# Altium integrated library Altium_WCAP-CSGP (rev21d).IntLib: 945 symbols (part 9 of 17)
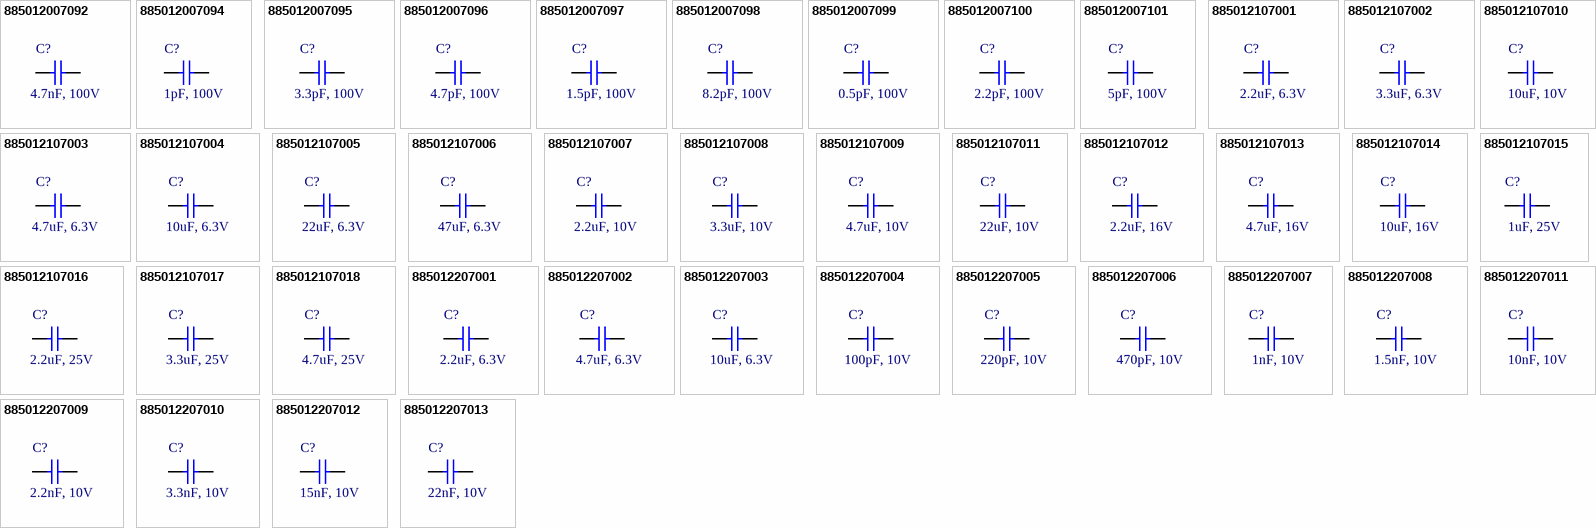
[diagram p35: symbols 885012007092 to 885012207013]

## 885012007097
designator C?, comment 1.5pF, 100V
WCAP-CSGP Multilayer Ceramic Chip Capacitor, General Purpose, size 0805, NP0, 1.5pF, 100V; Manufacturer Part Number: 885012007097; Manufacturer: Wurth Elektronik; Rated Voltage: 100VDC; Isolation Resistance  min.: 10GOhm; Capacitance Tolerance: +/-0.25pF; Technical Reference: NP008051R5C100DFCT10000; Q-Factor min.: 400+20C; ComponentLink1Description: Manufacturer; ComponentLink1URL: http://www.we-online.de; ComponentLink2Description: Datasheet; ComponentLink2URL: https://www.we-online.com/catalog/datasheet/885012007097.pdf; Operating Temperature: -55 to +125degC; Packaging: Tape and Reel; Published Date: April 2021; Ceramic Type: NP0; Dissipation Factor max.: -; Height: 0.6mm; Mounting Technology: SMT; Size: 0805; Capacitance: 1.5pF
footprint WCAP-CSGP_0805_H=0.6mm_Wave
footprint WCAP-CSGP_0805_H=0.6mm_Reflow
pins: 1, 2

## 885012007098
designator C?, comment 8.2pF, 100V
WCAP-CSGP Multilayer Ceramic Chip Capacitor, General Purpose, size 0805, NP0, 8.2pF, 100V; Manufacturer Part Number: 885012007098; Manufacturer: Wurth Elektronik; Rated Voltage: 100VDC; Isolation Resistance  min.: 10GOhm; Capacitance Tolerance: +/-0.5pF; Technical Reference: NP008058R2D100DFCT10000; Q-Factor min.: 400+20C; ComponentLink1Description: Manufacturer; ComponentLink1URL: http://www.we-online.de; ComponentLink2Description: Datasheet; ComponentLink2URL: https://www.we-online.com/catalog/datasheet/885012007098.pdf; Operating Temperature: -55 to +125degC; Packaging: Tape and Reel; Published Date: April 2021; Ceramic Type: NP0; Dissipation Factor max.: -; Height: 0.6mm; Mounting Technology: SMT; Size: 0805; Capacitance: 8.2pF
footprint WCAP-CSGP_0805_H=0.6mm_Wave
footprint WCAP-CSGP_0805_H=0.6mm_Reflow
pins: 1, 2

## 885012007099
designator C?, comment 0.5pF, 100V
WCAP-CSGP Multilayer Ceramic Chip Capacitor, General Purpose, size 0805, NP0, 0.5pF, 100V; Manufacturer Part Number: 885012007099; Manufacturer: Wurth Elektronik; Rated Voltage: 100VDC; Isolation Resistance  min.: 10GOhm; Capacitance Tolerance: +/-0.25pF; Technical Reference: NP00805R50C100DFCT10000; Q-Factor min.: 400+20C; ComponentLink1Description: Manufacturer; ComponentLink1URL: http://www.we-online.de; ComponentLink2Description: Datasheet; ComponentLink2URL: https://www.we-online.com/catalog/datasheet/885012007099.pdf; Operating Temperature: -55 to +125degC; Packaging: Tape and Reel; Published Date: April 2021; Ceramic Type: NP0; Dissipation Factor max.: -; Height: 0.6mm; Mounting Technology: SMT; Size: 0805; Capacitance: 0.5pF
footprint WCAP-CSGP_0805_H=0.6mm_Wave
footprint WCAP-CSGP_0805_H=0.6mm_Reflow
pins: 1, 2

## 885012007100
designator C?, comment 2.2pF, 100V
WCAP-CSGP Multilayer Ceramic Chip Capacitor, General Purpose, size 0805, NP0, 2.2pF, 100V; Manufacturer Part Number: 885012007100; Manufacturer: Wurth Elektronik; Rated Voltage: 100VDC; Isolation Resistance  min.: 10GOhm; Capacitance Tolerance: +/-0.25pF; Technical Reference: NP008052R2C100DFCT10000; Q-Factor min.: 400+20C; ComponentLink1Description: Manufacturer; ComponentLink1URL: http://www.we-online.de; ComponentLink2Description: Datasheet; ComponentLink2URL: https://www.we-online.com/catalog/datasheet/885012007100.pdf; Operating Temperature: -55 to +125degC; Packaging: Tape and Reel; Published Date: April 2021; Ceramic Type: NP0; Dissipation Factor max.: -; Height: 0.6mm; Mounting Technology: SMT; Size: 0805; Capacitance: 2.2pF
footprint WCAP-CSGP_0805_H=0.6mm_Wave
footprint WCAP-CSGP_0805_H=0.6mm_Reflow
pins: 1, 2

## 885012007101
designator C?, comment 5pF, 100V
WCAP-CSGP Multilayer Ceramic Chip Capacitor, General Purpose, size 0805, NP0, 5pF, 100V; Manufacturer Part Number: 885012007101; Manufacturer: Wurth Elektronik; Rated Voltage: 100VDC; Isolation Resistance  min.: 10GOhm; Capacitance Tolerance: +/-0.25pF; Technical Reference: NP008055R0C100DFCT10000; Q-Factor min.: 400+20C; ComponentLink1Description: Manufacturer; ComponentLink1URL: http://www.we-online.de; ComponentLink2Description: Datasheet; ComponentLink2URL: https://www.we-online.com/catalog/datasheet/885012007101.pdf; Operating Temperature: -55 to +125degC; Packaging: Tape and Reel; Published Date: April 2021; Ceramic Type: NP0; Dissipation Factor max.: -; Height: 0.6mm; Mounting Technology: SMT; Size: 0805; Capacitance: 5pF
footprint WCAP-CSGP_0805_H=0.6mm_Wave
footprint WCAP-CSGP_0805_H=0.6mm_Reflow
pins: 1, 2

## 885012107001
designator C?, comment 2.2uF, 6.3V
WCAP-CSGP Multilayer Ceramic Chip Capacitor, General Purpose, size 0805, X5R, 2.2uF, 6.3V; Manufacturer Part Number: 885012107001; Manufacturer: Wurth Elektronik; Rated Voltage: 6.3VDC; Isolation Resistance  min.: 0.05GOhm; Capacitance Tolerance: +/-20%; Dissipation Factor max.: 10%; Technical Reference: X5R0805225M6R3DFCT10000; ComponentLink1Description: Manufacturer; ComponentLink1URL: http://www.we-online.de; ComponentLink2Description: Datasheet; ComponentLink2URL: https://www.we-online.com/catalog/datasheet/885012107001.pdf; Operating Temperature: -55 to +85degC; Packaging: Tape and Reel; Published Date: April 2021; Ceramic Type: X5R; Height: 1.25mm; Mounting Technology: SMT; Size: 0805; Capacitance: 2.2uF; Q-Factor min.: -
footprint WCAP-CSGP_0805_H=1.25mm
pins: 1, 2

## 885012107002
designator C?, comment 3.3uF, 6.3V
WCAP-CSGP Multilayer Ceramic Chip Capacitor, General Purpose, size 0805, X5R, 3.3uF, 6.3V; Manufacturer Part Number: 885012107002; Manufacturer: Wurth Elektronik; Rated Voltage: 6.3VDC; Isolation Resistance  min.: 0.03GOhm; Capacitance Tolerance: +/-20%; Dissipation Factor max.: 10%; Technical Reference: X5R0805335M6R3DFCT10000; ComponentLink1Description: Manufacturer; ComponentLink1URL: http://www.we-online.de; ComponentLink2Description: Datasheet; ComponentLink2URL: https://www.we-online.com/catalog/datasheet/885012107002.pdf; Operating Temperature: -55 to +85degC; Packaging: Tape and Reel; Published Date: April 2021; Ceramic Type: X5R; Height: 1.25mm; Mounting Technology: SMT; Size: 0805; Capacitance: 3.3uF; Q-Factor min.: -
footprint WCAP-CSGP_0805_H=1.25mm
pins: 1, 2

## 885012107003
designator C?, comment 4.7uF, 6.3V
WCAP-CSGP Multilayer Ceramic Chip Capacitor, General Purpose, size 0805, X5R, 4.7uF, 6.3V; Manufacturer Part Number: 885012107003; Manufacturer: Wurth Elektronik; Rated Voltage: 6.3VDC; Isolation Resistance  min.: 0.02GOhm; Capacitance Tolerance: +/-20%; Dissipation Factor max.: 15%; Technical Reference: X5R0805475M6R3DFCT10000; ComponentLink1Description: Manufacturer; ComponentLink1URL: http://www.we-online.de; ComponentLink2Description: Datasheet; ComponentLink2URL: https://www.we-online.com/catalog/datasheet/885012107003.pdf; Operating Temperature: -55 to +85degC; Packaging: Tape and Reel; Published Date: April 2021; Ceramic Type: X5R; Height: 1.25mm; Mounting Technology: SMT; Size: 0805; Capacitance: 4.7uF; Q-Factor min.: -
footprint WCAP-CSGP_0805_H=1.25mm
pins: 1, 2

## 885012107004
designator C?, comment 10uF, 6.3V
WCAP-CSGP Multilayer Ceramic Chip Capacitor, General Purpose, size 0805, X5R, 10uF, 6.3V; Manufacturer Part Number: 885012107004; Manufacturer: Wurth Elektronik; Rated Voltage: 6.3VDC; Isolation Resistance  min.: 0.01GOhm; Capacitance Tolerance: +/-20%; Dissipation Factor max.: 15%; Technical Reference: X5R0805106M6R3DFCT10000; ComponentLink1Description: Manufacturer; ComponentLink1URL: http://www.we-online.de; ComponentLink2Description: Datasheet; ComponentLink2URL: https://www.we-online.com/catalog/datasheet/885012107004.pdf; Operating Temperature: -55 to +85degC; Packaging: Tape and Reel; Published Date: April 2021; Ceramic Type: X5R; Height: 1.25mm; Mounting Technology: SMT; Size: 0805; Capacitance: 10uF; Q-Factor min.: -
footprint WCAP-CSGP_0805_H=1.25mm
pins: 1, 2

## 885012107005
designator C?, comment 22uF, 6.3V
WCAP-CSGP Multilayer Ceramic Chip Capacitor, General Purpose, size 0805, X5R, 22uF, 6.3V; Manufacturer Part Number: 885012107005; Manufacturer: Wurth Elektronik; Rated Voltage: 6.3VDC; Isolation Resistance  min.: 0.005GOhm; Capacitance Tolerance: +/-20%; Dissipation Factor max.: 10%; Technical Reference: X5R0805226M6R3DFCT10000; ComponentLink1Description: Manufacturer; ComponentLink1URL: http://www.we-online.de; ComponentLink2Description: Datasheet; ComponentLink2URL: https://www.we-online.com/catalog/datasheet/885012107005.pdf; Operating Temperature: -55 to +85degC; Packaging: Tape and Reel; Published Date: April 2021; Ceramic Type: X5R; Height: 1.25mm; Mounting Technology: SMT; Size: 0805; Capacitance: 22uF; Q-Factor min.: -
footprint WCAP-CSGP_0805_H=1.25mm
pins: 1, 2

## 885012107006
designator C?, comment 47uF, 6.3V
WCAP-CSGP Multilayer Ceramic Chip Capacitor, General Purpose, size 0805, X5R, 47uF, 6.3V; Manufacturer Part Number: 885012107006; Manufacturer: Wurth Elektronik; Rated Voltage: 6.3VDC; Isolation Resistance  min.: 0.002GOhm; Capacitance Tolerance: +/-20%; Dissipation Factor max.: 10%; Technical Reference: X5R0805476M6R3DFCT10000; ComponentLink1Description: Manufacturer; ComponentLink1URL: http://www.we-online.de; ComponentLink2Description: Datasheet; ComponentLink2URL: https://www.we-online.com/catalog/datasheet/885012107006.pdf; Operating Temperature: -55 to +85degC; Packaging: Tape and Reel; Published Date: April 2021; Ceramic Type: X5R; Height: 1.25mm; Mounting Technology: SMT; Size: 0805; Capacitance: 47uF; Q-Factor min.: -
footprint WCAP-CSGP_0805_H=1.25mm
pins: 1, 2

## 885012107007
designator C?, comment 2.2uF, 10V
WCAP-CSGP Multilayer Ceramic Chip Capacitor, General Purpose, size 0805, X5R, 2.2uF, 10V; Manufacturer Part Number: 885012107007; Manufacturer: Wurth Elektronik; Rated Voltage: 10VDC; Isolation Resistance  min.: 0.05GOhm; Capacitance Tolerance: +/-20%; Dissipation Factor max.: 10%; Technical Reference: X5R0805225M010DFCT10000; ComponentLink1Description: Manufacturer; ComponentLink1URL: http://www.we-online.de; ComponentLink2Description: Datasheet; ComponentLink2URL: https://www.we-online.com/catalog/datasheet/885012107007.pdf; Operating Temperature: -55 to +85degC; Packaging: Tape and Reel; Published Date: April 2021; Ceramic Type: X5R; Height: 1.25mm; Mounting Technology: SMT; Size: 0805; Capacitance: 2.2uF; Q-Factor min.: -
footprint WCAP-CSGP_0805_H=1.25mm
pins: 1, 2

## 885012107008
designator C?, comment 3.3uF, 10V
WCAP-CSGP Multilayer Ceramic Chip Capacitor, General Purpose, size 0805, X5R, 3.3uF, 10V; Manufacturer Part Number: 885012107008; Manufacturer: Wurth Elektronik; Rated Voltage: 10VDC; Isolation Resistance  min.: 0.03GOhm; Capacitance Tolerance: +/-20%; Dissipation Factor max.: 10%; Technical Reference: X5R0805335M010DFCT10000; ComponentLink1Description: Manufacturer; ComponentLink1URL: http://www.we-online.de; ComponentLink2Description: Datasheet; ComponentLink2URL: https://www.we-online.com/catalog/datasheet/885012107008.pdf; Operating Temperature: -55 to +85degC; Packaging: Tape and Reel; Published Date: April 2021; Ceramic Type: X5R; Height: 1.25mm; Mounting Technology: SMT; Size: 0805; Capacitance: 3.3uF; Q-Factor min.: -
footprint WCAP-CSGP_0805_H=1.25mm
pins: 1, 2

## 885012107009
designator C?, comment 4.7uF, 10V
WCAP-CSGP Multilayer Ceramic Chip Capacitor, General Purpose, size 0805, X5R, 4.7uF, 10V; Manufacturer Part Number: 885012107009; Manufacturer: Wurth Elektronik; Rated Voltage: 10VDC; Isolation Resistance  min.: 0.02GOhm; Capacitance Tolerance: +/-20%; Dissipation Factor max.: 10%; Technical Reference: X5R0805475M010DFCT10000; ComponentLink1Description: Manufacturer; ComponentLink1URL: http://www.we-online.de; ComponentLink2Description: Datasheet; ComponentLink2URL: https://www.we-online.com/catalog/datasheet/885012107009.pdf; Operating Temperature: -55 to +85degC; Packaging: Tape and Reel; Published Date: April 2021; Ceramic Type: X5R; Height: 1.25mm; Mounting Technology: SMT; Size: 0805; Capacitance: 4.7uF; Q-Factor min.: -
footprint WCAP-CSGP_0805_H=1.25mm
pins: 1, 2

## 885012107010
designator C?, comment 10uF, 10V
WCAP-CSGP Multilayer Ceramic Chip Capacitor, General Purpose, size 0805, X5R, 10uF, 10V; Manufacturer Part Number: 885012107010; Manufacturer: Wurth Elektronik; Rated Voltage: 10VDC; Isolation Resistance  min.: 0.01GOhm; Capacitance Tolerance: +/-20%; Dissipation Factor max.: 10%; Technical Reference: X5R0805106M010DFCT10000; ComponentLink1Description: Manufacturer; ComponentLink1URL: http://www.we-online.de; ComponentLink2Description: Datasheet; ComponentLink2URL: https://www.we-online.com/catalog/datasheet/885012107010.pdf; Operating Temperature: -55 to +85degC; Packaging: Tape and Reel; Published Date: April 2021; Ceramic Type: X5R; Height: 1.25mm; Mounting Technology: SMT; Size: 0805; Capacitance: 10uF; Q-Factor min.: -
footprint WCAP-CSGP_0805_H=1.25mm
pins: 1, 2

## 885012107011
designator C?, comment 22uF, 10V
WCAP-CSGP Multilayer Ceramic Chip Capacitor, General Purpose, size 0805, X5R, 22uF, 10V; Manufacturer Part Number: 885012107011; Manufacturer: Wurth Elektronik; Rated Voltage: 10VDC; Isolation Resistance  min.: 0.005GOhm; Capacitance Tolerance: +/-20%; Dissipation Factor max.: 10%; Technical Reference: X5R0805226M010DFCT10000; ComponentLink1Description: Manufacturer; ComponentLink1URL: http://www.we-online.de; ComponentLink2Description: Datasheet; ComponentLink2URL: https://www.we-online.com/catalog/datasheet/885012107011.pdf; Operating Temperature: -55 to +85degC; Packaging: Tape and Reel; Published Date: April 2021; Ceramic Type: X5R; Height: 1.25mm; Mounting Technology: SMT; Size: 0805; Capacitance: 22uF; Q-Factor min.: -
footprint WCAP-CSGP_0805_H=1.25mm
pins: 1, 2

## 885012107012
designator C?, comment 2.2uF, 16V
WCAP-CSGP Multilayer Ceramic Chip Capacitor, General Purpose, size 0805, X5R, 2.2uF, 16V; Manufacturer Part Number: 885012107012; Manufacturer: Wurth Elektronik; Rated Voltage: 16VDC; Isolation Resistance  min.: 0.05GOhm; Capacitance Tolerance: +/-20%; Dissipation Factor max.: 10%; Technical Reference: X5R0805225M016DFCT10000; ComponentLink1Description: Manufacturer; ComponentLink1URL: http://www.we-online.de; ComponentLink2Description: Datasheet; ComponentLink2URL: https://www.we-online.com/catalog/datasheet/885012107012.pdf; Operating Temperature: -55 to +85degC; Packaging: Tape and Reel; Published Date: April 2021; Ceramic Type: X5R; Height: 1.25mm; Mounting Technology: SMT; Size: 0805; Capacitance: 2.2uF; Q-Factor min.: -
footprint WCAP-CSGP_0805_H=1.25mm
pins: 1, 2

## 885012107013
designator C?, comment 4.7uF, 16V
WCAP-CSGP Multilayer Ceramic Chip Capacitor, General Purpose, size 0805, X5R, 4.7uF, 16V; Manufacturer Part Number: 885012107013; Manufacturer: Wurth Elektronik; Rated Voltage: 16VDC; Isolation Resistance  min.: 0.02GOhm; Capacitance Tolerance: +/-20%; Dissipation Factor max.: 10%; Technical Reference: X5R0805475M016DFCT10000; ComponentLink1Description: Manufacturer; ComponentLink1URL: http://www.we-online.de; ComponentLink2Description: Datasheet; ComponentLink2URL: https://www.we-online.com/catalog/datasheet/885012107013.pdf; Operating Temperature: -55 to +85degC; Packaging: Tape and Reel; Published Date: April 2021; Ceramic Type: X5R; Height: 1.25mm; Mounting Technology: SMT; Size: 0805; Capacitance: 4.7uF; Q-Factor min.: -
footprint WCAP-CSGP_0805_H=1.25mm
pins: 1, 2

## 885012107014
designator C?, comment 10uF, 16V
WCAP-CSGP Multilayer Ceramic Chip Capacitor, General Purpose, size 0805, X5R, 10uF, 16V; Manufacturer Part Number: 885012107014; Manufacturer: Wurth Elektronik; Rated Voltage: 16VDC; Isolation Resistance  min.: 0.01GOhm; Capacitance Tolerance: +/-20%; Dissipation Factor max.: 10%; Technical Reference: X5R0805106M016DFCT10000; ComponentLink1Description: Manufacturer; ComponentLink1URL: http://www.we-online.de; ComponentLink2Description: Datasheet; ComponentLink2URL: https://www.we-online.com/catalog/datasheet/885012107014.pdf; Operating Temperature: -55 to +85degC; Packaging: Tape and Reel; Published Date: April 2021; Ceramic Type: X5R; Height: 1.25mm; Mounting Technology: SMT; Size: 0805; Capacitance: 10uF; Q-Factor min.: -
footprint WCAP-CSGP_0805_H=1.25mm
pins: 1, 2

## 885012107015
designator C?, comment 1uF, 25V
WCAP-CSGP Multilayer Ceramic Chip Capacitor, General Purpose, size 0805, X5R, 1uF, 25V; Manufacturer Part Number: 885012107015; Manufacturer: Wurth Elektronik; Rated Voltage: 25VDC; Isolation Resistance  min.: 0.5GOhm; Capacitance Tolerance: +/-20%; Dissipation Factor max.: 5%; Technical Reference: X5R0805105M025DFCT10000; ComponentLink1Description: Manufacturer; ComponentLink1URL: http://www.we-online.de; ComponentLink2Description: Datasheet; ComponentLink2URL: https://www.we-online.com/catalog/datasheet/885012107015.pdf; Operating Temperature: -55 to +85degC; Packaging: Tape and Reel; Published Date: April 2021; Ceramic Type: X5R; Height: 1.25mm; Mounting Technology: SMT; Size: 0805; Capacitance: 1uF; Q-Factor min.: -
footprint WCAP-CSGP_0805_H=1.25mm
pins: 1, 2

## 885012107016
designator C?, comment 2.2uF, 25V
WCAP-CSGP Multilayer Ceramic Chip Capacitor, General Purpose, size 0805, X5R, 2.2uF, 25V; Manufacturer Part Number: 885012107016; Manufacturer: Wurth Elektronik; Rated Voltage: 25VDC; Isolation Resistance  min.: 0.05GOhm; Capacitance Tolerance: +/-20%; Dissipation Factor max.: 10%; Technical Reference: X5R0805225M025DFCT10000; ComponentLink1Description: Manufacturer; ComponentLink1URL: http://www.we-online.de; ComponentLink2Description: Datasheet; ComponentLink2URL: https://www.we-online.com/catalog/datasheet/885012107016.pdf; Operating Temperature: -55 to +85degC; Packaging: Tape and Reel; Published Date: April 2021; Ceramic Type: X5R; Height: 1.25mm; Mounting Technology: SMT; Size: 0805; Capacitance: 2.2uF; Q-Factor min.: -
footprint WCAP-CSGP_0805_H=1.25mm
pins: 1, 2

## 885012107017
designator C?, comment 3.3uF, 25V
WCAP-CSGP Multilayer Ceramic Chip Capacitor, General Purpose, size 0805, X5R, 3.3uF, 25V; Manufacturer Part Number: 885012107017; Manufacturer: Wurth Elektronik; Rated Voltage: 25VDC; Isolation Resistance  min.: 0.03GOhm; Capacitance Tolerance: +/-20%; Dissipation Factor max.: 10%; Technical Reference: X5R0805335M025DFCT10000; ComponentLink1Description: Manufacturer; ComponentLink1URL: http://www.we-online.de; ComponentLink2Description: Datasheet; ComponentLink2URL: https://www.we-online.com/catalog/datasheet/885012107017.pdf; Operating Temperature: -55 to +85degC; Packaging: Tape and Reel; Published Date: April 2021; Ceramic Type: X5R; Height: 1.25mm; Mounting Technology: SMT; Size: 0805; Capacitance: 3.3uF; Q-Factor min.: -
footprint WCAP-CSGP_0805_H=1.25mm
pins: 1, 2

## 885012107018
designator C?, comment 4.7uF, 25V
WCAP-CSGP Multilayer Ceramic Chip Capacitor, General Purpose, size 0805, X5R, 4.7uF, 25V; Manufacturer Part Number: 885012107018; Manufacturer: Wurth Elektronik; Rated Voltage: 25VDC; Isolation Resistance  min.: 0.02GOhm; Capacitance Tolerance: +/-20%; Dissipation Factor max.: 10%; Technical Reference: X5R0805475M025DFCT10000; ComponentLink1Description: Manufacturer; ComponentLink1URL: http://www.we-online.de; ComponentLink2Description: Datasheet; ComponentLink2URL: https://www.we-online.com/catalog/datasheet/885012107018.pdf; Operating Temperature: -55 to +85degC; Packaging: Tape and Reel; Published Date: April 2021; Ceramic Type: X5R; Height: 1.25mm; Mounting Technology: SMT; Size: 0805; Capacitance: 4.7uF; Q-Factor min.: -
footprint WCAP-CSGP_0805_H=1.25mm
pins: 1, 2

## 885012207001
designator C?, comment 2.2uF, 6.3V
WCAP-CSGP Multilayer Ceramic Chip Capacitor, General Purpose, size 0805, X7R, 2.2uF, 6.3V; Manufacturer Part Number: 885012207001; Manufacturer: Wurth Elektronik; Rated Voltage: 6.3VDC; Isolation Resistance  min.: 0.05GOhm; Capacitance Tolerance: +/-10%; Dissipation Factor max.: 10%; Technical Reference: X7R0805225K6R3DFCT10000; ComponentLink1Description: Manufacturer; ComponentLink1URL: http://www.we-online.de; ComponentLink2Description: Datasheet; ComponentLink2URL: https://www.we-online.com/catalog/datasheet/885012207001.pdf; Operating Temperature: -55 to +125degC; Packaging: Tape and Reel; Published Date: April 2021; Ceramic Type: X7R; Height: 1.25mm; Mounting Technology: SMT; Size: 0805; Capacitance: 2.2uF; Q-Factor min.: -
footprint WCAP-CSGP_0805_H=1.25mm
pins: 1, 2

## 885012207002
designator C?, comment 4.7uF, 6.3V
WCAP-CSGP Multilayer Ceramic Chip Capacitor, General Purpose, size 0805, X7R, 4.7uF, 6.3V; Manufacturer Part Number: 885012207002; Manufacturer: Wurth Elektronik; Rated Voltage: 6.3VDC; Isolation Resistance  min.: 0.02GOhm; Capacitance Tolerance: +/-10%; Dissipation Factor max.: 10%; Technical Reference: X7R0805475K6R3DFCT10000; ComponentLink1Description: Manufacturer; ComponentLink1URL: http://www.we-online.de; ComponentLink2Description: Datasheet; ComponentLink2URL: https://www.we-online.com/catalog/datasheet/885012207002.pdf; Operating Temperature: -55 to +125degC; Packaging: Tape and Reel; Published Date: April 2021; Ceramic Type: X7R; Height: 1.25mm; Mounting Technology: SMT; Size: 0805; Capacitance: 4.7uF; Q-Factor min.: -
footprint WCAP-CSGP_0805_H=1.25mm
pins: 1, 2

## 885012207003
designator C?, comment 10uF, 6.3V
WCAP-CSGP Multilayer Ceramic Chip Capacitor, General Purpose, size 0805, X7R, 10uF, 6.3V; Manufacturer Part Number: 885012207003; Manufacturer: Wurth Elektronik; Rated Voltage: 6.3VDC; Isolation Resistance  min.: 0.01GOhm; Capacitance Tolerance: +/-10%; Dissipation Factor max.: 10%; Technical Reference: X7R0805106K6R3DFCT10000; ComponentLink1Description: Manufacturer; ComponentLink1URL: http://www.we-online.de; ComponentLink2Description: Datasheet; ComponentLink2URL: https://www.we-online.com/catalog/datasheet/885012207003.pdf; Operating Temperature: -55 to +125degC; Packaging: Tape and Reel; Published Date: April 2021; Ceramic Type: X7R; Height: 1.25mm; Mounting Technology: SMT; Size: 0805; Capacitance: 10uF; Q-Factor min.: -
footprint WCAP-CSGP_0805_H=1.25mm
pins: 1, 2

## 885012207004
designator C?, comment 100pF, 10V
WCAP-CSGP Multilayer Ceramic Chip Capacitor, General Purpose, size 0805, X7R, 100pF, 10V; Manufacturer Part Number: 885012207004; Manufacturer: Wurth Elektronik; Rated Voltage: 10VDC; Isolation Resistance  min.: 10GOhm; Capacitance Tolerance: +/-10%; Dissipation Factor max.: 5%; Technical Reference: X7R0805101K010DFCT10000; ComponentLink1Description: Manufacturer; ComponentLink1URL: http://www.we-online.de; ComponentLink2Description: Datasheet; ComponentLink2URL: https://www.we-online.com/catalog/datasheet/885012207004.pdf; Operating Temperature: -55 to +125degC; Packaging: Tape and Reel; Published Date: April 2021; Ceramic Type: X7R; Height: 0.8mm; Mounting Technology: SMT; Size: 0805; Capacitance: 100pF; Q-Factor min.: -
footprint WCAP-CSGP_0805_H=0.8mm_Wave
footprint WCAP-CSGP_0805_H=0.8mm_Reflow
pins: 1, 2

## 885012207005
designator C?, comment 220pF, 10V
WCAP-CSGP Multilayer Ceramic Chip Capacitor, General Purpose, size 0805, X7R, 220pF, 10V; Manufacturer Part Number: 885012207005; Manufacturer: Wurth Elektronik; Rated Voltage: 10VDC; Isolation Resistance  min.: 10GOhm; Capacitance Tolerance: +/-10%; Dissipation Factor max.: 5%; Technical Reference: X7R0805221K010DFCT10000; ComponentLink1Description: Manufacturer; ComponentLink1URL: http://www.we-online.de; ComponentLink2Description: Datasheet; ComponentLink2URL: https://www.we-online.com/catalog/datasheet/885012207005.pdf; Operating Temperature: -55 to +125degC; Packaging: Tape and Reel; Published Date: April 2021; Ceramic Type: X7R; Height: 0.8mm; Mounting Technology: SMT; Size: 0805; Capacitance: 220pF; Q-Factor min.: -
footprint WCAP-CSGP_0805_H=0.8mm_Wave
footprint WCAP-CSGP_0805_H=0.8mm_Reflow
pins: 1, 2

## 885012207006
designator C?, comment 470pF, 10V
WCAP-CSGP Multilayer Ceramic Chip Capacitor, General Purpose, size 0805, X7R, 470pF, 10V; Manufacturer Part Number: 885012207006; Manufacturer: Wurth Elektronik; Rated Voltage: 10VDC; Isolation Resistance  min.: 10GOhm; Capacitance Tolerance: +/-10%; Dissipation Factor max.: 5%; Technical Reference: X7R0805471K010DFCT10000; ComponentLink1Description: Manufacturer; ComponentLink1URL: http://www.we-online.de; ComponentLink2Description: Datasheet; ComponentLink2URL: https://www.we-online.com/catalog/datasheet/885012207006.pdf; Operating Temperature: -55 to +125degC; Packaging: Tape and Reel; Published Date: April 2021; Ceramic Type: X7R; Height: 0.8mm; Mounting Technology: SMT; Size: 0805; Capacitance: 470pF; Q-Factor min.: -
footprint WCAP-CSGP_0805_H=0.8mm_Wave
footprint WCAP-CSGP_0805_H=0.8mm_Reflow
pins: 1, 2

## 885012207007
designator C?, comment 1nF, 10V
WCAP-CSGP Multilayer Ceramic Chip Capacitor, General Purpose, size 0805, X7R, 1nF, 10V; Manufacturer Part Number: 885012207007; Manufacturer: Wurth Elektronik; Rated Voltage: 10VDC; Isolation Resistance  min.: 10GOhm; Capacitance Tolerance: +/-10%; Dissipation Factor max.: 5%; Technical Reference: X7R0805102K010DFCT10000; ComponentLink1Description: Manufacturer; ComponentLink1URL: http://www.we-online.de; ComponentLink2Description: Datasheet; ComponentLink2URL: https://www.we-online.com/catalog/datasheet/885012207007.pdf; Operating Temperature: -55 to +125degC; Packaging: Tape and Reel; Published Date: April 2021; Ceramic Type: X7R; Height: 0.8mm; Mounting Technology: SMT; Size: 0805; Capacitance: 1nF; Q-Factor min.: -
footprint WCAP-CSGP_0805_H=0.8mm_Wave
footprint WCAP-CSGP_0805_H=0.8mm_Reflow
pins: 1, 2

## 885012207008
designator C?, comment 1.5nF, 10V
WCAP-CSGP Multilayer Ceramic Chip Capacitor, General Purpose, size 0805, X7R, 1.5nF, 10V; Manufacturer Part Number: 885012207008; Manufacturer: Wurth Elektronik; Rated Voltage: 10VDC; Isolation Resistance  min.: 10GOhm; Capacitance Tolerance: +/-10%; Dissipation Factor max.: 5%; Technical Reference: X7R0805152K010DFCT10000; ComponentLink1Description: Manufacturer; ComponentLink1URL: http://www.we-online.de; ComponentLink2Description: Datasheet; ComponentLink2URL: https://www.we-online.com/catalog/datasheet/885012207008.pdf; Operating Temperature: -55 to +125degC; Packaging: Tape and Reel; Published Date: April 2021; Ceramic Type: X7R; Height: 0.8mm; Mounting Technology: SMT; Size: 0805; Capacitance: 1.5nF; Q-Factor min.: -
footprint WCAP-CSGP_0805_H=0.8mm_Wave
footprint WCAP-CSGP_0805_H=0.8mm_Reflow
pins: 1, 2

## 885012207009
designator C?, comment 2.2nF, 10V
WCAP-CSGP Multilayer Ceramic Chip Capacitor, General Purpose, size 0805, X7R, 2.2nF, 10V; Manufacturer Part Number: 885012207009; Manufacturer: Wurth Elektronik; Rated Voltage: 10VDC; Isolation Resistance  min.: 10GOhm; Capacitance Tolerance: +/-10%; Dissipation Factor max.: 5%; Technical Reference: X7R0805222K010DFCT10000; ComponentLink1Description: Manufacturer; ComponentLink1URL: http://www.we-online.de; ComponentLink2Description: Datasheet; ComponentLink2URL: https://www.we-online.com/catalog/datasheet/885012207009.pdf; Operating Temperature: -55 to +125degC; Packaging: Tape and Reel; Published Date: April 2021; Ceramic Type: X7R; Height: 0.8mm; Mounting Technology: SMT; Size: 0805; Capacitance: 2.2nF; Q-Factor min.: -
footprint WCAP-CSGP_0805_H=0.8mm_Wave
footprint WCAP-CSGP_0805_H=0.8mm_Reflow
pins: 1, 2

## 885012207010
designator C?, comment 3.3nF, 10V
WCAP-CSGP Multilayer Ceramic Chip Capacitor, General Purpose, size 0805, X7R, 3.3nF, 10V; Manufacturer Part Number: 885012207010; Manufacturer: Wurth Elektronik; Rated Voltage: 10VDC; Isolation Resistance  min.: 10GOhm; Capacitance Tolerance: +/-10%; Dissipation Factor max.: 5%; Technical Reference: X7R0805332K010DFCT10000; ComponentLink1Description: Manufacturer; ComponentLink1URL: http://www.we-online.de; ComponentLink2Description: Datasheet; ComponentLink2URL: https://www.we-online.com/catalog/datasheet/885012207010.pdf; Operating Temperature: -55 to +125degC; Packaging: Tape and Reel; Published Date: April 2021; Ceramic Type: X7R; Height: 0.8mm; Mounting Technology: SMT; Size: 0805; Capacitance: 3.3nF; Q-Factor min.: -
footprint WCAP-CSGP_0805_H=0.8mm_Wave
footprint WCAP-CSGP_0805_H=0.8mm_Reflow
pins: 1, 2

## 885012207011
designator C?, comment 10nF, 10V
WCAP-CSGP Multilayer Ceramic Chip Capacitor, General Purpose, size 0805, X7R, 10nF, 10V; Manufacturer Part Number: 885012207011; Manufacturer: Wurth Elektronik; Rated Voltage: 10VDC; Isolation Resistance  min.: 10GOhm; Capacitance Tolerance: +/-10%; Dissipation Factor max.: 5%; Technical Reference: X7R0805103K010DFCT10000; ComponentLink1Description: Manufacturer; ComponentLink1URL: http://www.we-online.de; ComponentLink2Description: Datasheet; ComponentLink2URL: https://www.we-online.com/catalog/datasheet/885012207011.pdf; Operating Temperature: -55 to +125degC; Packaging: Tape and Reel; Published Date: April 2021; Ceramic Type: X7R; Height: 0.8mm; Mounting Technology: SMT; Size: 0805; Capacitance: 10nF; Q-Factor min.: -
footprint WCAP-CSGP_0805_H=0.8mm_Wave
footprint WCAP-CSGP_0805_H=0.8mm_Reflow
pins: 1, 2

## 885012207012
designator C?, comment 15nF, 10V
WCAP-CSGP Multilayer Ceramic Chip Capacitor, General Purpose, size 0805, X7R, 15nF, 10V; Manufacturer Part Number: 885012207012; Manufacturer: Wurth Elektronik; Rated Voltage: 10VDC; Isolation Resistance  min.: 10GOhm; Capacitance Tolerance: +/-10%; Dissipation Factor max.: 5%; Technical Reference: X7R0805153K010DFCT10000; ComponentLink1Description: Manufacturer; ComponentLink1URL: http://www.we-online.de; ComponentLink2Description: Datasheet; ComponentLink2URL: https://www.we-online.com/catalog/datasheet/885012207012.pdf; Operating Temperature: -55 to +125degC; Packaging: Tape and Reel; Published Date: April 2021; Ceramic Type: X7R; Height: 0.8mm; Mounting Technology: SMT; Size: 0805; Capacitance: 15nF; Q-Factor min.: -
footprint WCAP-CSGP_0805_H=0.8mm_Wave
footprint WCAP-CSGP_0805_H=0.8mm_Reflow
pins: 1, 2

## 885012207013
designator C?, comment 22nF, 10V
WCAP-CSGP Multilayer Ceramic Chip Capacitor, General Purpose, size 0805, X7R, 22nF, 10V; Manufacturer Part Number: 885012207013; Manufacturer: Wurth Elektronik; Rated Voltage: 10VDC; Isolation Resistance  min.: 10GOhm; Capacitance Tolerance: +/-10%; Dissipation Factor max.: 5%; Technical Reference: X7R0805223K010DFCT10000; ComponentLink1Description: Manufacturer; ComponentLink1URL: http://www.we-online.de; ComponentLink2Description: Datasheet; ComponentLink2URL: https://www.we-online.com/catalog/datasheet/885012207013.pdf; Operating Temperature: -55 to +125degC; Packaging: Tape and Reel; Published Date: April 2021; Ceramic Type: X7R; Height: 0.8mm; Mounting Technology: SMT; Size: 0805; Capacitance: 22nF; Q-Factor min.: -
footprint WCAP-CSGP_0805_H=0.8mm_Wave
footprint WCAP-CSGP_0805_H=0.8mm_Reflow
pins: 1, 2

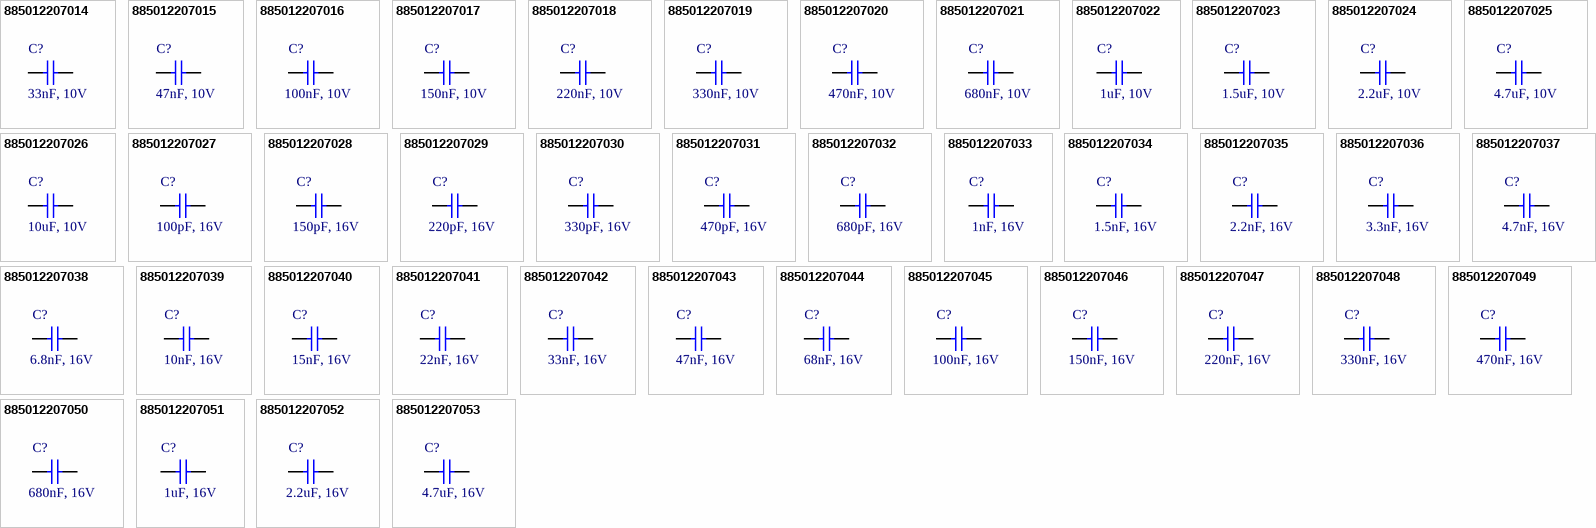
[diagram p14: symbols 885012207014 to 885012207053]

## 885012207014
designator C?, comment 33nF, 10V
WCAP-CSGP Multilayer Ceramic Chip Capacitor, General Purpose, size 0805, X7R, 33nF, 10V; Manufacturer Part Number: 885012207014; Manufacturer: Wurth Elektronik; Rated Voltage: 10VDC; Isolation Resistance  min.: 10GOhm; Capacitance Tolerance: +/-10%; Dissipation Factor max.: 5%; Technical Reference: X7R0805333K010DFCT10000; ComponentLink1Description: Manufacturer; ComponentLink1URL: http://www.we-online.de; ComponentLink2Description: Datasheet; ComponentLink2URL: https://www.we-online.com/catalog/datasheet/885012207014.pdf; Operating Temperature: -55 to +125degC; Packaging: Tape and Reel; Published Date: April 2021; Ceramic Type: X7R; Height: 0.8mm; Mounting Technology: SMT; Size: 0805; Capacitance: 33nF; Q-Factor min.: -
footprint WCAP-CSGP_0805_H=0.8mm_Wave
footprint WCAP-CSGP_0805_H=0.8mm_Reflow
pins: 1, 2

## 885012207015
designator C?, comment 47nF, 10V
WCAP-CSGP Multilayer Ceramic Chip Capacitor, General Purpose, size 0805, X7R, 47nF, 10V; Manufacturer Part Number: 885012207015; Manufacturer: Wurth Elektronik; Rated Voltage: 10VDC; Isolation Resistance  min.: 10GOhm; Capacitance Tolerance: +/-10%; Dissipation Factor max.: 5%; Technical Reference: X7R0805473K010DFCT10000; ComponentLink1Description: Manufacturer; ComponentLink1URL: http://www.we-online.de; ComponentLink2Description: Datasheet; ComponentLink2URL: https://www.we-online.com/catalog/datasheet/885012207015.pdf; Operating Temperature: -55 to +125degC; Packaging: Tape and Reel; Published Date: April 2021; Ceramic Type: X7R; Height: 0.8mm; Mounting Technology: SMT; Size: 0805; Capacitance: 47nF; Q-Factor min.: -
footprint WCAP-CSGP_0805_H=0.8mm_Wave
footprint WCAP-CSGP_0805_H=0.8mm_Reflow
pins: 1, 2

## 885012207016
designator C?, comment 100nF, 10V
WCAP-CSGP Multilayer Ceramic Chip Capacitor, General Purpose, size 0805, X7R, 100nF, 10V; Manufacturer Part Number: 885012207016; Manufacturer: Wurth Elektronik; Rated Voltage: 10VDC; Isolation Resistance  min.: 5GOhm; Capacitance Tolerance: +/-10%; Dissipation Factor max.: 5%; Technical Reference: X7R0805104K010DFCT10000; ComponentLink1Description: Manufacturer; ComponentLink1URL: http://www.we-online.de; ComponentLink2Description: Datasheet; ComponentLink2URL: https://www.we-online.com/catalog/datasheet/885012207016.pdf; Operating Temperature: -55 to +125degC; Packaging: Tape and Reel; Published Date: April 2021; Ceramic Type: X7R; Height: 0.8mm; Mounting Technology: SMT; Size: 0805; Capacitance: 100nF; Q-Factor min.: -
footprint WCAP-CSGP_0805_H=0.8mm_Wave
footprint WCAP-CSGP_0805_H=0.8mm_Reflow
pins: 1, 2

## 885012207017
designator C?, comment 150nF, 10V
WCAP-CSGP Multilayer Ceramic Chip Capacitor, General Purpose, size 0805, X7R, 150nF, 10V; Manufacturer Part Number: 885012207017; Manufacturer: Wurth Elektronik; Rated Voltage: 10VDC; Isolation Resistance  min.: 3.3GOhm; Capacitance Tolerance: +/-10%; Dissipation Factor max.: 5%; Technical Reference: X7R0805154K010DFCT10000; ComponentLink1Description: Manufacturer; ComponentLink1URL: http://www.we-online.de; ComponentLink2Description: Datasheet; ComponentLink2URL: https://www.we-online.com/catalog/datasheet/885012207017.pdf; Operating Temperature: -55 to +125degC; Packaging: Tape and Reel; Published Date: April 2021; Ceramic Type: X7R; Height: 1.25mm; Mounting Technology: SMT; Size: 0805; Capacitance: 150nF; Q-Factor min.: -
footprint WCAP-CSGP_0805_H=1.25mm
pins: 1, 2

## 885012207018
designator C?, comment 220nF, 10V
WCAP-CSGP Multilayer Ceramic Chip Capacitor, General Purpose, size 0805, X7R, 220nF, 10V; Manufacturer Part Number: 885012207018; Manufacturer: Wurth Elektronik; Rated Voltage: 10VDC; Isolation Resistance  min.: 2.3GOhm; Capacitance Tolerance: +/-10%; Dissipation Factor max.: 5%; Technical Reference: X7R0805224K010DFCT10000; ComponentLink1Description: Manufacturer; ComponentLink1URL: http://www.we-online.de; ComponentLink2Description: Datasheet; ComponentLink2URL: https://www.we-online.com/catalog/datasheet/885012207018.pdf; Operating Temperature: -55 to +125degC; Packaging: Tape and Reel; Published Date: April 2021; Ceramic Type: X7R; Height: 1.25mm; Mounting Technology: SMT; Size: 0805; Capacitance: 220nF; Q-Factor min.: -
footprint WCAP-CSGP_0805_H=1.25mm
pins: 1, 2

## 885012207019
designator C?, comment 330nF, 10V
WCAP-CSGP Multilayer Ceramic Chip Capacitor, General Purpose, size 0805, X7R, 330nF, 10V; Manufacturer Part Number: 885012207019; Manufacturer: Wurth Elektronik; Rated Voltage: 10VDC; Isolation Resistance  min.: 1.5GOhm; Capacitance Tolerance: +/-10%; Dissipation Factor max.: 5%; Technical Reference: X7R0805334K010DFCT10000; ComponentLink1Description: Manufacturer; ComponentLink1URL: http://www.we-online.de; ComponentLink2Description: Datasheet; ComponentLink2URL: https://www.we-online.com/catalog/datasheet/885012207019.pdf; Operating Temperature: -55 to +125degC; Packaging: Tape and Reel; Published Date: April 2021; Ceramic Type: X7R; Height: 1.25mm; Mounting Technology: SMT; Size: 0805; Capacitance: 330nF; Q-Factor min.: -
footprint WCAP-CSGP_0805_H=1.25mm
pins: 1, 2

## 885012207020
designator C?, comment 470nF, 10V
WCAP-CSGP Multilayer Ceramic Chip Capacitor, General Purpose, size 0805, X7R, 470nF, 10V; Manufacturer Part Number: 885012207020; Manufacturer: Wurth Elektronik; Rated Voltage: 10VDC; Isolation Resistance  min.: 1.1GOhm; Capacitance Tolerance: +/-10%; Dissipation Factor max.: 5%; Technical Reference: X7R0805474K010DFCT10000; ComponentLink1Description: Manufacturer; ComponentLink1URL: http://www.we-online.de; ComponentLink2Description: Datasheet; ComponentLink2URL: https://www.we-online.com/catalog/datasheet/885012207020.pdf; Operating Temperature: -55 to +125degC; Packaging: Tape and Reel; Published Date: April 2021; Ceramic Type: X7R; Height: 1.25mm; Mounting Technology: SMT; Size: 0805; Capacitance: 470nF; Q-Factor min.: -
footprint WCAP-CSGP_0805_H=1.25mm
pins: 1, 2

## 885012207021
designator C?, comment 680nF, 10V
WCAP-CSGP Multilayer Ceramic Chip Capacitor, General Purpose, size 0805, X7R, 680nF, 10V; Manufacturer Part Number: 885012207021; Manufacturer: Wurth Elektronik; Rated Voltage: 10VDC; Isolation Resistance  min.: 0.7GOhm; Capacitance Tolerance: +/-10%; Dissipation Factor max.: 5%; Technical Reference: X7R0805684K010DFCT10000; ComponentLink1Description: Manufacturer; ComponentLink1URL: http://www.we-online.de; ComponentLink2Description: Datasheet; ComponentLink2URL: https://www.we-online.com/catalog/datasheet/885012207021.pdf; Operating Temperature: -55 to +125degC; Packaging: Tape and Reel; Published Date: April 2021; Ceramic Type: X7R; Height: 1.25mm; Mounting Technology: SMT; Size: 0805; Capacitance: 680nF; Q-Factor min.: -
footprint WCAP-CSGP_0805_H=1.25mm
pins: 1, 2

## 885012207022
designator C?, comment 1uF, 10V
WCAP-CSGP Multilayer Ceramic Chip Capacitor, General Purpose, size 0805, X7R, 1uF, 10V; Manufacturer Part Number: 885012207022; Manufacturer: Wurth Elektronik; Rated Voltage: 10VDC; Isolation Resistance  min.: 0.5GOhm; Capacitance Tolerance: +/-10%; Dissipation Factor max.: 5%; Technical Reference: X7R0805105K010DFCT10000; ComponentLink1Description: Manufacturer; ComponentLink1URL: http://www.we-online.de; ComponentLink2Description: Datasheet; ComponentLink2URL: https://www.we-online.com/catalog/datasheet/885012207022.pdf; Operating Temperature: -55 to +125degC; Packaging: Tape and Reel; Published Date: April 2021; Ceramic Type: X7R; Height: 1.25mm; Mounting Technology: SMT; Size: 0805; Capacitance: 1uF; Q-Factor min.: -
footprint WCAP-CSGP_0805_H=1.25mm
pins: 1, 2

## 885012207023
designator C?, comment 1.5uF, 10V
WCAP-CSGP Multilayer Ceramic Chip Capacitor, General Purpose, size 0805, X7R, 1.5uF, 10V; Manufacturer Part Number: 885012207023; Manufacturer: Wurth Elektronik; Rated Voltage: 10VDC; Isolation Resistance  min.: 0.3GOhm; Capacitance Tolerance: +/-10%; Dissipation Factor max.: 5%; Technical Reference: X7R0805155K010DFCT10000; ComponentLink1Description: Manufacturer; ComponentLink1URL: http://www.we-online.de; ComponentLink2Description: Datasheet; ComponentLink2URL: https://www.we-online.com/catalog/datasheet/885012207023.pdf; Operating Temperature: -55 to +125degC; Packaging: Tape and Reel; Published Date: April 2021; Ceramic Type: X7R; Height: 1.25mm; Mounting Technology: SMT; Size: 0805; Capacitance: 1.5uF; Q-Factor min.: -
footprint WCAP-CSGP_0805_H=1.25mm
pins: 1, 2

## 885012207024
designator C?, comment 2.2uF, 10V
WCAP-CSGP Multilayer Ceramic Chip Capacitor, General Purpose, size 0805, X7R, 2.2uF, 10V; Manufacturer Part Number: 885012207024; Manufacturer: Wurth Elektronik; Rated Voltage: 10VDC; Isolation Resistance  min.: 0.05GOhm; Capacitance Tolerance: +/-10%; Dissipation Factor max.: 10%; Technical Reference: X7R0805225K010DFCT10000; ComponentLink1Description: Manufacturer; ComponentLink1URL: http://www.we-online.de; ComponentLink2Description: Datasheet; ComponentLink2URL: https://www.we-online.com/catalog/datasheet/885012207024.pdf; Operating Temperature: -55 to +125degC; Packaging: Tape and Reel; Published Date: April 2021; Ceramic Type: X7R; Height: 1.25mm; Mounting Technology: SMT; Size: 0805; Capacitance: 2.2uF; Q-Factor min.: -
footprint WCAP-CSGP_0805_H=1.25mm
pins: 1, 2

## 885012207025
designator C?, comment 4.7uF, 10V
WCAP-CSGP Multilayer Ceramic Chip Capacitor, General Purpose, size 0805, X7R, 4.7uF, 10V; Manufacturer Part Number: 885012207025; Manufacturer: Wurth Elektronik; Rated Voltage: 10VDC; Isolation Resistance  min.: 0.02GOhm; Capacitance Tolerance: +/-10%; Dissipation Factor max.: 10%; Technical Reference: X7R0805475K010DFCT10000; ComponentLink1Description: Manufacturer; ComponentLink1URL: http://www.we-online.de; ComponentLink2Description: Datasheet; ComponentLink2URL: https://www.we-online.com/catalog/datasheet/885012207025.pdf; Operating Temperature: -55 to +125degC; Packaging: Tape and Reel; Published Date: April 2021; Ceramic Type: X7R; Height: 1.25mm; Mounting Technology: SMT; Size: 0805; Capacitance: 4.7uF; Q-Factor min.: -
footprint WCAP-CSGP_0805_H=1.25mm
pins: 1, 2

## 885012207026
designator C?, comment 10uF, 10V
WCAP-CSGP Multilayer Ceramic Chip Capacitor, General Purpose, size 0805, X7R, 10uF, 10V; Manufacturer Part Number: 885012207026; Manufacturer: Wurth Elektronik; Rated Voltage: 10VDC; Isolation Resistance  min.: 0.01GOhm; Capacitance Tolerance: +/-10%; Dissipation Factor max.: 10%; Technical Reference: X7R0805106K010DFCT10000; ComponentLink1Description: Manufacturer; ComponentLink1URL: http://www.we-online.de; ComponentLink2Description: Datasheet; ComponentLink2URL: https://www.we-online.com/catalog/datasheet/885012207026.pdf; Operating Temperature: -55 to +125degC; Packaging: Tape and Reel; Published Date: April 2021; Ceramic Type: X7R; Height: 1.25mm; Mounting Technology: SMT; Size: 0805; Capacitance: 10uF; Q-Factor min.: -
footprint WCAP-CSGP_0805_H=1.25mm
pins: 1, 2

## 885012207027
designator C?, comment 100pF, 16V
WCAP-CSGP Multilayer Ceramic Chip Capacitor, General Purpose, size 0805, X7R, 100pF, 16V; Manufacturer Part Number: 885012207027; Manufacturer: Wurth Elektronik; Rated Voltage: 16VDC; Isolation Resistance  min.: 10GOhm; Capacitance Tolerance: +/-10%; Dissipation Factor max.: 3.5%; Technical Reference: X7R0805101K016DFCT10000; ComponentLink1Description: Manufacturer; ComponentLink1URL: http://www.we-online.de; ComponentLink2Description: Datasheet; ComponentLink2URL: https://www.we-online.com/catalog/datasheet/885012207027.pdf; Operating Temperature: -55 to +125degC; Packaging: Tape and Reel; Published Date: April 2021; Ceramic Type: X7R; Height: 0.8mm; Mounting Technology: SMT; Size: 0805; Capacitance: 100pF; Q-Factor min.: -
footprint WCAP-CSGP_0805_H=0.8mm_Wave
footprint WCAP-CSGP_0805_H=0.8mm_Reflow
pins: 1, 2

## 885012207028
designator C?, comment 150pF, 16V
WCAP-CSGP Multilayer Ceramic Chip Capacitor, General Purpose, size 0805, X7R, 150pF, 16V; Manufacturer Part Number: 885012207028; Manufacturer: Wurth Elektronik; Rated Voltage: 16VDC; Isolation Resistance  min.: 10GOhm; Capacitance Tolerance: +/-10%; Dissipation Factor max.: 3.5%; Technical Reference: X7R0805151K016DFCT10000; ComponentLink1Description: Manufacturer; ComponentLink1URL: http://www.we-online.de; ComponentLink2Description: Datasheet; ComponentLink2URL: https://www.we-online.com/catalog/datasheet/885012207028.pdf; Operating Temperature: -55 to +125degC; Packaging: Tape and Reel; Published Date: April 2021; Ceramic Type: X7R; Height: 0.8mm; Mounting Technology: SMT; Size: 0805; Capacitance: 150pF; Q-Factor min.: -
footprint WCAP-CSGP_0805_H=0.8mm_Wave
footprint WCAP-CSGP_0805_H=0.8mm_Reflow
pins: 1, 2

## 885012207029
designator C?, comment 220pF, 16V
WCAP-CSGP Multilayer Ceramic Chip Capacitor, General Purpose, size 0805, X7R, 220pF, 16V; Manufacturer Part Number: 885012207029; Manufacturer: Wurth Elektronik; Rated Voltage: 16VDC; Isolation Resistance  min.: 10GOhm; Capacitance Tolerance: +/-10%; Dissipation Factor max.: 3.5%; Technical Reference: X7R0805221K016DFCT10000; ComponentLink1Description: Manufacturer; ComponentLink1URL: http://www.we-online.de; ComponentLink2Description: Datasheet; ComponentLink2URL: https://www.we-online.com/catalog/datasheet/885012207029.pdf; Operating Temperature: -55 to +125degC; Packaging: Tape and Reel; Published Date: April 2021; Ceramic Type: X7R; Height: 0.8mm; Mounting Technology: SMT; Size: 0805; Capacitance: 220pF; Q-Factor min.: -
footprint WCAP-CSGP_0805_H=0.8mm_Wave
footprint WCAP-CSGP_0805_H=0.8mm_Reflow
pins: 1, 2

## 885012207030
designator C?, comment 330pF, 16V
WCAP-CSGP Multilayer Ceramic Chip Capacitor, General Purpose, size 0805, X7R, 330pF, 16V; Manufacturer Part Number: 885012207030; Manufacturer: Wurth Elektronik; Rated Voltage: 16VDC; Isolation Resistance  min.: 10GOhm; Capacitance Tolerance: +/-10%; Dissipation Factor max.: 3.5%; Technical Reference: X7R0805331K016DFCT10000; ComponentLink1Description: Manufacturer; ComponentLink1URL: http://www.we-online.de; ComponentLink2Description: Datasheet; ComponentLink2URL: https://www.we-online.com/catalog/datasheet/885012207030.pdf; Operating Temperature: -55 to +125degC; Packaging: Tape and Reel; Published Date: April 2021; Ceramic Type: X7R; Height: 0.8mm; Mounting Technology: SMT; Size: 0805; Capacitance: 330pF; Q-Factor min.: -
footprint WCAP-CSGP_0805_H=0.8mm_Wave
footprint WCAP-CSGP_0805_H=0.8mm_Reflow
pins: 1, 2

## 885012207031
designator C?, comment 470pF, 16V
WCAP-CSGP Multilayer Ceramic Chip Capacitor, General Purpose, size 0805, X7R, 470pF, 16V; Manufacturer Part Number: 885012207031; Manufacturer: Wurth Elektronik; Rated Voltage: 16VDC; Isolation Resistance  min.: 10GOhm; Capacitance Tolerance: +/-10%; Dissipation Factor max.: 3.5%; Technical Reference: X7R0805471K016DFCT10000; ComponentLink1Description: Manufacturer; ComponentLink1URL: http://www.we-online.de; ComponentLink2Description: Datasheet; ComponentLink2URL: https://www.we-online.com/catalog/datasheet/885012207031.pdf; Operating Temperature: -55 to +125degC; Packaging: Tape and Reel; Published Date: April 2021; Ceramic Type: X7R; Height: 0.8mm; Mounting Technology: SMT; Size: 0805; Capacitance: 470pF; Q-Factor min.: -
footprint WCAP-CSGP_0805_H=0.8mm_Wave
footprint WCAP-CSGP_0805_H=0.8mm_Reflow
pins: 1, 2

## 885012207032
designator C?, comment 680pF, 16V
WCAP-CSGP Multilayer Ceramic Chip Capacitor, General Purpose, size 0805, X7R, 680pF, 16V; Manufacturer Part Number: 885012207032; Manufacturer: Wurth Elektronik; Rated Voltage: 16VDC; Isolation Resistance  min.: 10GOhm; Capacitance Tolerance: +/-10%; Dissipation Factor max.: 3.5%; Technical Reference: X7R0805681K016DFCT10000; ComponentLink1Description: Manufacturer; ComponentLink1URL: http://www.we-online.de; ComponentLink2Description: Datasheet; ComponentLink2URL: https://www.we-online.com/catalog/datasheet/885012207032.pdf; Operating Temperature: -55 to +125degC; Packaging: Tape and Reel; Published Date: April 2021; Ceramic Type: X7R; Height: 0.8mm; Mounting Technology: SMT; Size: 0805; Capacitance: 680pF; Q-Factor min.: -
footprint WCAP-CSGP_0805_H=0.8mm_Wave
footprint WCAP-CSGP_0805_H=0.8mm_Reflow
pins: 1, 2

## 885012207033
designator C?, comment 1nF, 16V
WCAP-CSGP Multilayer Ceramic Chip Capacitor, General Purpose, size 0805, X7R, 1nF, 16V; Manufacturer Part Number: 885012207033; Manufacturer: Wurth Elektronik; Rated Voltage: 16VDC; Isolation Resistance  min.: 10GOhm; Capacitance Tolerance: +/-10%; Dissipation Factor max.: 3.5%; Technical Reference: X7R0805102K016DFCT10000; ComponentLink1Description: Manufacturer; ComponentLink1URL: http://www.we-online.de; ComponentLink2Description: Datasheet; ComponentLink2URL: https://www.we-online.com/catalog/datasheet/885012207033.pdf; Operating Temperature: -55 to +125degC; Packaging: Tape and Reel; Published Date: April 2021; Ceramic Type: X7R; Height: 0.8mm; Mounting Technology: SMT; Size: 0805; Capacitance: 1nF; Q-Factor min.: -
footprint WCAP-CSGP_0805_H=0.8mm_Wave
footprint WCAP-CSGP_0805_H=0.8mm_Reflow
pins: 1, 2

## 885012207034
designator C?, comment 1.5nF, 16V
WCAP-CSGP Multilayer Ceramic Chip Capacitor, General Purpose, size 0805, X7R, 1.5nF, 16V; Manufacturer Part Number: 885012207034; Manufacturer: Wurth Elektronik; Rated Voltage: 16VDC; Isolation Resistance  min.: 10GOhm; Capacitance Tolerance: +/-10%; Dissipation Factor max.: 3.5%; Technical Reference: X7R0805152K016DFCT10000; ComponentLink1Description: Manufacturer; ComponentLink1URL: http://www.we-online.de; ComponentLink2Description: Datasheet; ComponentLink2URL: https://www.we-online.com/catalog/datasheet/885012207034.pdf; Operating Temperature: -55 to +125degC; Packaging: Tape and Reel; Published Date: April 2021; Ceramic Type: X7R; Height: 0.8mm; Mounting Technology: SMT; Size: 0805; Capacitance: 1.5nF; Q-Factor min.: -
footprint WCAP-CSGP_0805_H=0.8mm_Wave
footprint WCAP-CSGP_0805_H=0.8mm_Reflow
pins: 1, 2

## 885012207035
designator C?, comment 2.2nF, 16V
WCAP-CSGP Multilayer Ceramic Chip Capacitor, General Purpose, size 0805, X7R, 2.2nF, 16V; Manufacturer Part Number: 885012207035; Manufacturer: Wurth Elektronik; Rated Voltage: 16VDC; Isolation Resistance  min.: 10GOhm; Capacitance Tolerance: +/-10%; Dissipation Factor max.: 3.5%; Technical Reference: X7R0805222K016DFCT10000; ComponentLink1Description: Manufacturer; ComponentLink1URL: http://www.we-online.de; ComponentLink2Description: Datasheet; ComponentLink2URL: https://www.we-online.com/catalog/datasheet/885012207035.pdf; Operating Temperature: -55 to +125degC; Packaging: Tape and Reel; Published Date: April 2021; Ceramic Type: X7R; Height: 0.8mm; Mounting Technology: SMT; Size: 0805; Capacitance: 2.2nF; Q-Factor min.: -
footprint WCAP-CSGP_0805_H=0.8mm_Wave
footprint WCAP-CSGP_0805_H=0.8mm_Reflow
pins: 1, 2